# Altium integrated library DiodeSchottky.IntLib: 1 symbol
Pins are listed as number, name and electrical type; pins without a type are passive.

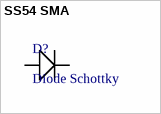
[diagram p0: symbol SS54 SMA]

## SS54 SMA
designator D?, comment Diode Schottky
Diode Shotky SS54 5A 40V
footprint DO-214AC
pins: 1 K, 2 A